# Altium schematic symbol library Power_IC#csv.SchLib: 7 symbols
Pins are listed as number, name and electrical type; pins without a type are passive.

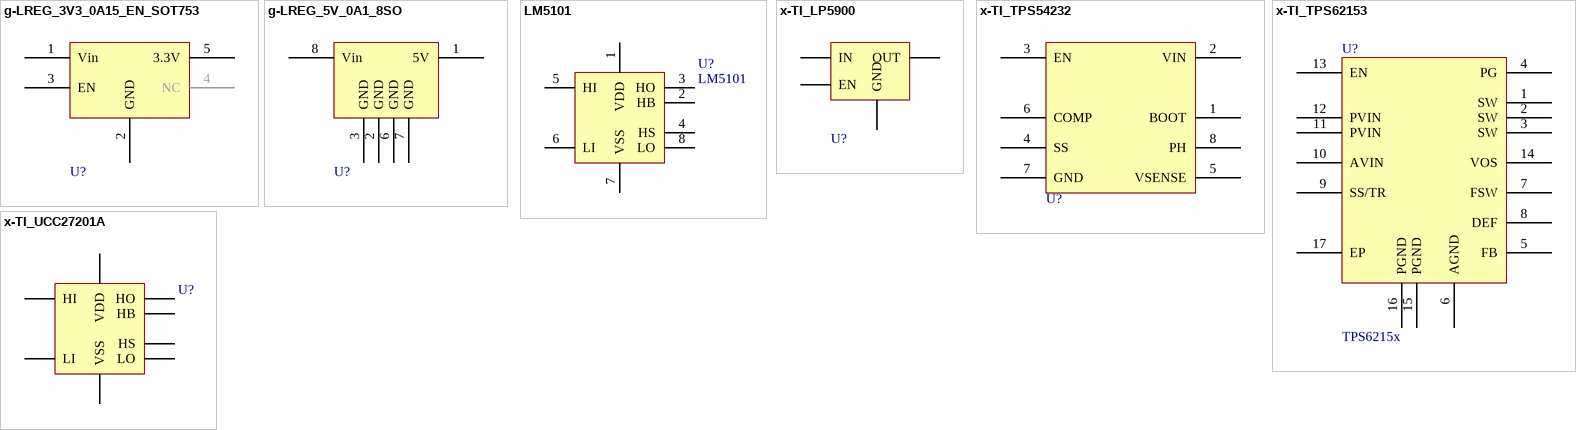
[diagram p0: symbols g-LREG_3V3_0A15_EN_SOT753 to x-TI_UCC27201A]

## g-LREG_3V3_0A15_EN_SOT753
designator U?, comment LREG_3T_5pinA_EN_3.3V  (value not drawn)
150 mA LDO Linear Regulator, SOT23-5; Manufacturer: Skyworks Solutions Inc; Manufacturer Part Number: AAT3221IGV-3.3-T1; Name: g-LREG_3V3_0A15_EN_SOT753; Value: 3.3V, 0.15A; Supplier 1: Digi-Key; Supplier Part Number 1: 863-1491-1-ND
footprint JEDEC_MO-178AA
pins: 1 Vin (power), 2 GND, 3 EN, 4 NC, 5 3.3V (power)

## g-LREG_5V_0A1_8SO
designator U?, comment LREG_3T_8pinA_5V  (value not drawn)
IC REG LDO 5V 0.1A 8SO; Manufacturer: STMicroelectronics; Manufacturer Part Number: L78L05ABD13TR; Name: g-LREG_5V_0A1_8SO; Value: 5V, 0.1A; Supplier 1: Digi-Key; Supplier Part Number 1: 497-1180-1-ND
footprint JEDEC_MS-012AA
pins: 1 5V (power), 2 GND, 3 GND, 6 GND, 7 GND, 8 Vin (power)

## LM5101
designator U?
IC DRVR HALF BRDG 100V 2A 8-SOIC; Manufacturer: Texas Instruments; Manufacturer Part Number: LM5101BMA-NOPB; Name: LM5101; Supplier 1: Digi-Key; Supplier Part Number 1: LM5101BMA/NOPB-ND
footprint JEDEC_MS-012AA
pins: 1 VDD, 2 HB, 3 HO, 4 HS, 5 HI, 6 LI, 7 VSS, 8 LO

## x-TI_LP5900
designator U?, comment LP5900  (value not drawn)
IC REG LDO 3.3V 0.15A 6WSON; Manufacturer: Texas Instruments; Manufacturer Part Number: LP5900SD-3.3/NOPB; Name: x-TI_LP5900; Supplier 1: Digi-Key; Supplier Part Number 1: LP5900SD-3.3/NOPBCT-ND
footprint x-TI_S-NGF0006A
pins: 1 OUT, 3 GND, 4 EN, 6 IN

## x-TI_TPS54232
designator U?, comment TPS54232  (value not drawn)
2A, 28V, 1Mhz, STEP DOWN DC/DC CONVERTER; Manufacturer: Texas Instruments; Manufacturer Part Number: TPS54232D; Name: x-TI_TPS54232; Value: 2A, 28V, 1Mhz
footprint JEDEC_MS-012AA
pins: 1 BOOT, 2 VIN, 3 EN, 4 SS, 5 VSENSE, 6 COMP, 7 GND, 8 PH

## x-TI_TPS62153
designator U?, comment TPS6215x
3-17V 1A Step-Down Converter in 3x3 QFN Package; Manufacturer: Texas Instruments; Manufacturer Part Number: TPS62153; Name: x-TI_TPS62153; Value: 1A, 5V,  1.25MHz; Drawn By: Juan I Carrano; Supplier 1: Texas Instruments
footprint JEDEC_MO-220VEED-4
pins: 1 SW, 2 SW, 3 SW, 4 PG, 5 FB, 6 AGND, 7 FSW, 8 DEF, 9 SS/TR, 10 AVIN, 11 PVIN, 12 PVIN, 13 EN, 14 VOS, 15 PGND, 16 PGND, 17 EP

## x-TI_UCC27201A
designator U?, comment UCC27201A  (value not drawn)
IC DVR HIGH/LOW SIDE 3A 9SON; Manufacturer: Texas Instruments; Manufacturer Part Number: UCC27201ADRCT; Name: x-TI_UCC27201A; Supplier 1: Digi-Key; Supplier Part Number 1: 296-30051-2-ND
footprint x-TI_S-PVSON-N9
pins: 1 VDD, 2 HB, 3 HO, 4 HS, 6 HI, 7 LI, 8 VSS, 9 LO